# Altium footprint library Empreintes_LIB_atelier1A.PcbLib: 79 footprints (part 3 of 5)
Each footprint in its own frame and in the unit in brackets; x right, y up, seen from the top. Pads: shape width x height; smd on the part's side, far side on the other; paste and mask are expansions set on the pad; w line width, h text height; cw(c..) or ccw(c..) is an arc to the next point about the centre after c.
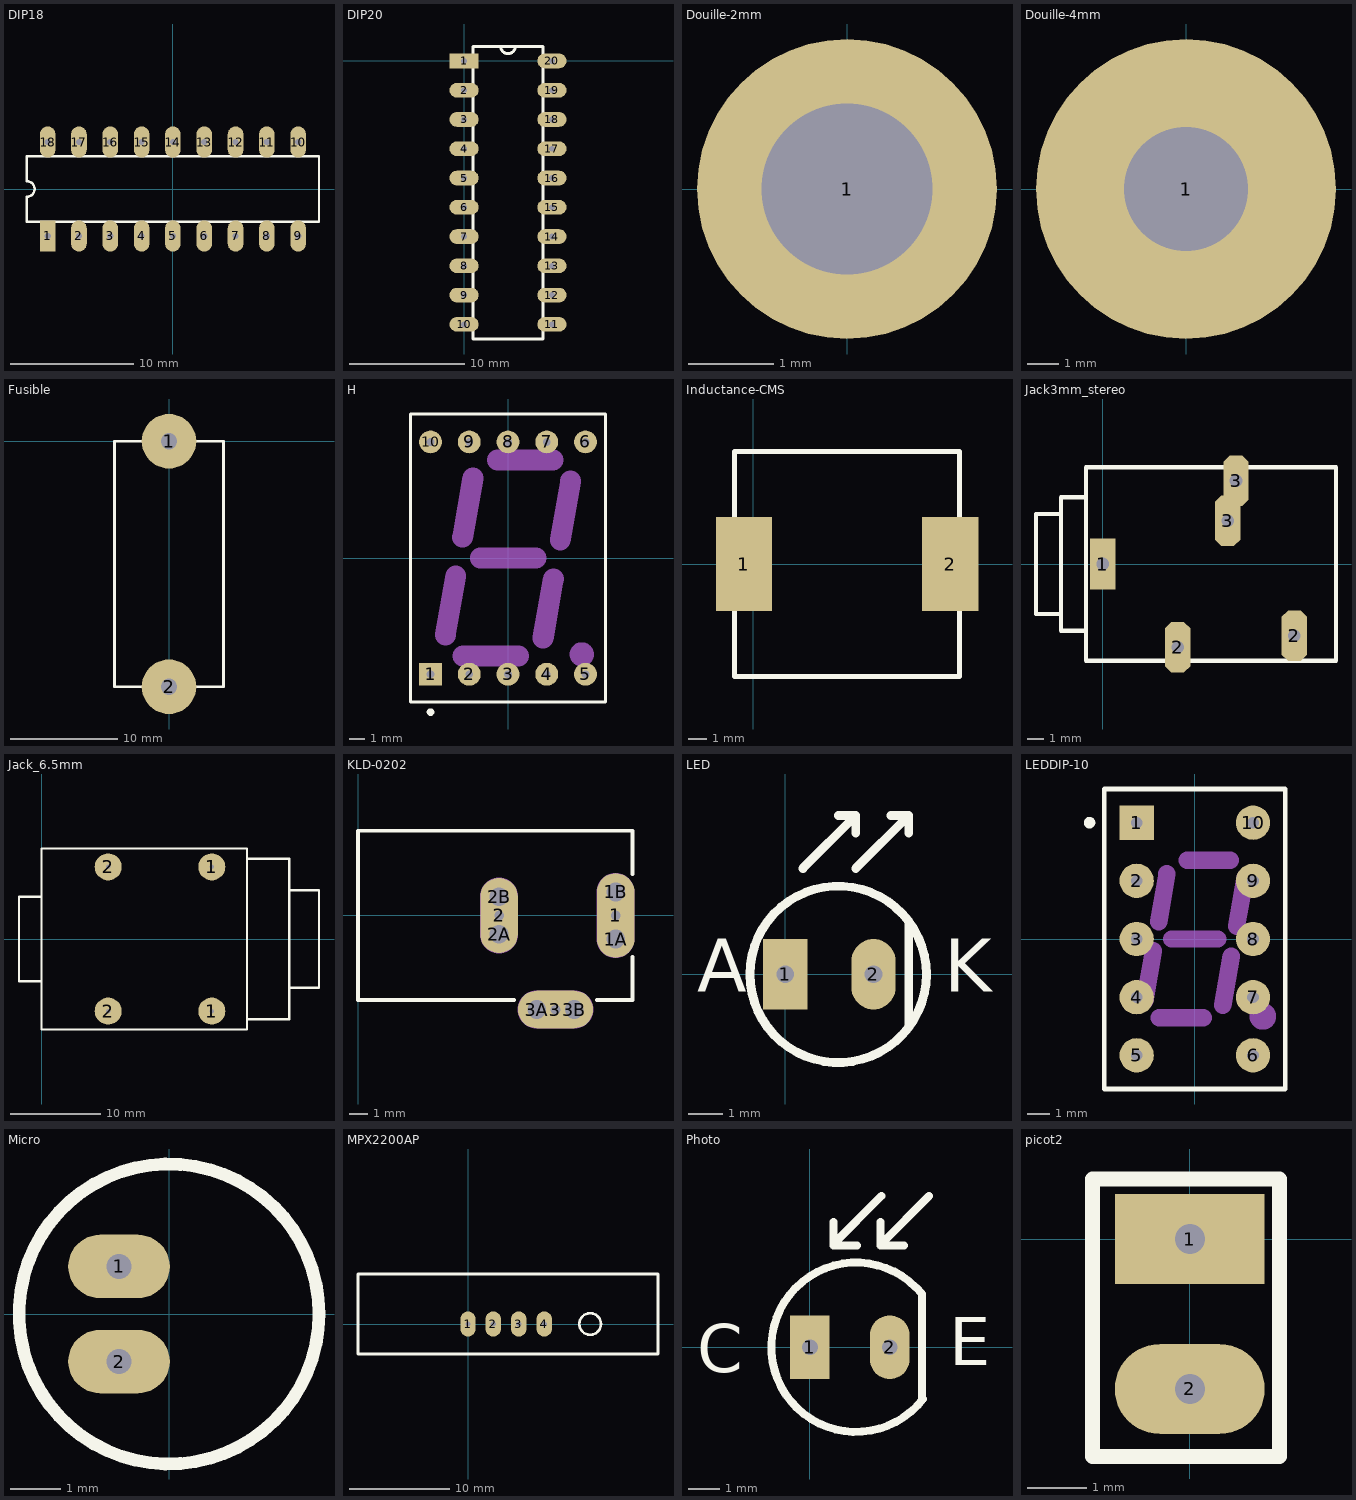
[diagram p2: the footprints below, top view; thin cyan lines are the x and y axes]

## DIP18 [mil] "CerDIP, Window; 18 Leads; Row Spacing 7.62 mm; Pitch 2.54 mm"
height 195.28
pads (18):
  rect 50x100 hole 20: 1(-400,-150)
  oval 50x100 hole 20: 2(-300,-150) 3(-200,-150) 4(-100,-150) 5(0,-150) 6(100,-150) 7(200,-150) 8(300,-150) 9(400,-150) 10(400,150) 11(300,150) 12(200,150) 13(100,150) 14(0,150) 15(-100,150) 16(-200,150) 17(-300,150) 18(-400,150)
TopOverlay:
  lines w7.87: -466.54,-104.33 466.54,-104.33 466.54,104.33 -466.54,104.33 -466.54,25 cw(c-466.54,0) -466.54,-25 -466.54,-104.33

## DIP20 [mil]
pads (20):
  rect 100x50 hole 20: 1(0,0)
  oval 100x50 hole 20: 2(0,-100) 3(0,-200) 4(0,-300) 5(0,-400) 6(0,-500) 7(0,-600) 8(0,-700) 9(0,-800) 10(0,-900) 11(300,-900) 12(300,-800) 13(300,-700) 14(300,-600) 15(300,-500) 16(300,-400) 17(300,-300) 18(300,-200) 19(300,-100) 20(300,0)
TopOverlay:
  lines w10: 85,-950 215,-950 ; 85,50 125,50 ccw(c150,50) 175,50 215,50 ; 30,-950 30,50 270,50 270,-950 30,-950

## Douille-2mm [mm]
pads (1):
  round 3.5 hole 2: 1(0,0)

## Douille-4mm [mil]
pads (1):
  round 380 hole 157.48: 1(0,0)

## Fusible [mil]
pads (2):
  round 200 hole 60: 1(0,0) 2(0,-900)
TopOverlay:
  lines w10: -200,-900 200,-900 200,-60 200,0 -200,0 -200,-900

## H [mm] "LED, 7-Segment Display, 14.2 mm, RHD; 10 Leads; Row Space 15.24 mm; Pitch 2.54 mm"
height 8.25
pads (10):
  rect 1.5x1.5 hole 0.508: 1(-5.08,-7.62)
  round 1.5 hole 0.508: 2(-2.54,-7.62) 3(0,-7.62) 4(2.54,-7.62) 5(5.08,-7.62) 6(5.08,7.62) 7(2.54,7.62) 8(0,7.62) 9(-2.54,7.62) 10(-5.08,7.62)
TopOverlay:
  circle w0.25: c-5.08,-10.1 r0.125
  lines w0.2: -6.4,-9.45 -6.4,9.45 6.4,9.45 6.4,-9.45 -6.4,-9.45
Mechanical1:
  circle w1: c4.842,-6.316 r0.296
  lines w1.37: -4.108,-5.054 -3.425,-1.17 ; -2.974,1.368 -2.293,5.255 ; -2.958,-6.429 0.692,-6.426 ; -1.821,0 1.828,0 ; -0.689,6.425 2.96,6.425 ; 2.295,-5.256 2.98,-1.371 ; 3.427,1.169 4.11,5.058

## Inductance-CMS [mil]
pads (2):
  rect 120x200 smd: 1(-20,0) 2(420,0)
TopOverlay:
  lines w10: -40,-240 -40,240 440,240 440,-240 -40,-240

## Jack3mm_stereo [mil]
pads (5):
  rect 60x120 hole 30: 1(0,0)
  oct 60x120 hole 30: 2(177.16,-196.85) 2(452.76,-169.29) 3(295.28,102.36) 3(314.96,196.85)
TopOverlay:
  lines w10: -98.43,-118.11 -157.48,-118.11 -157.48,118.11 -98.43,118.11 ; -39.37,-157.48 -98.43,-157.48 -98.43,157.48 -39.37,157.48 ; -39.37,-228.35 -39.37,0 -39.37,228.35 551.18,228.35 551.18,-228.35 -39.37,-228.35

## Jack_6.5mm [mm]
pads (4):
  round 3 hole 0.508: 1(18.9,-8) 1(18.9,8) 2(7.4,-8) 2(7.4,8)
TopOverlay:
  lines w0.254: 0,-4.7 -2.5,-4.7 -2.5,4.7 0,4.7 ; 22.8,-8.9 27.5,-8.9 27.5,8.9 22.8,8.9 ; 27.5,-5.4 30.8,-5.4 30.8,5.4 27.5,5.4 ; 0,-10.05 22.8,-10.05 22.8,10.05 0,10.05 0,-10.05

## KLD-0202 [mm]
pads (9):
  oval 2x4.5 hole 0.508: 1(13.7,0)
  round 1.5 hole 1: 1A(13.7,-1.25) 1B(13.7,1.25) 2A(7.5,-1) 2B(7.5,1) 3A(9.5,-5) 3B(11.5,-5)
  oval 2x4 hole 0.508: 2(7.5,0)
  oval 4x2 hole 0.508: 3(10.5,-5)
TopOverlay:
  lines w0.2: 8.3,-4.5 0,-4.5 0,4.5 14.6,4.5 14.6,2.2 ; 12.7,-4.5 14.6,-4.5 14.6,-2.2
Mechanical1:
  lines w1: 7.5,-1 7.5,1 ; 9.5,-5 11.5,-5 ; 13.7,-1.25 13.7,1.25
  text "Mech 2 - Clearance, move to internal plane if present" at 0.286,5.066 h0.3
  text "Mech 1 - Slot cut-out" at 0.286,5.566 h0.3
  text "Assign keep-out area to slot" at 0.286,6.566 h0.3
  text "Alert PCB fab to slot details" at 0.286,6.066 h0.3
Mechanical2:
  lines w2.016: 7.5,-1 7.5,1 ; 9.5,-5 11.5,-5 ; 13.7,-1.25 13.7,1.25

## LED [mil]
pads (2):
  rect 50x80 hole 20: 1(0,0)
  oval 50x80 hole 20: 2(100,0)
TopOverlay:
  circle w10: c60,0 r100
  lines w10: 20,120 80,180 ; 60,180 80,180 ; 80,120 140,180 ; 80,160 80,180 ; 120,180 140,180 ; 140,-60 140,60 ; 140,160 140,180
  text "K" at 180,-20 h60
  text "A" at -100,-20 h60

## LEDDIP-10 [mm] "LED, 7-Segment Display, 7.62 mm, RHD; 10 Leads; Row Space 5.08 mm; Pitch 2.54 mm"
height 6.34
pads (10):
  rect 1.5x1.5 hole 0.508: 1(-2.54,5.08)
  round 1.5 hole 0.508: 2(-2.54,2.54) 3(-2.54,0) 4(-2.54,-2.54) 5(-2.54,-5.08) 6(2.54,-5.08) 7(2.54,-2.54) 8(2.54,0) 9(2.54,2.54) 10(2.54,5.08)
TopOverlay:
  circle w0.25: c-4.6,5.08 r0.125
  lines w0.2: -3.95,-6.55 -3.95,6.55 3.95,6.55 3.95,-6.55 -3.95,-6.55
Mechanical1:
  circle w0.86: c2.97,-3.38 r0.15
  lines w0.762: -2.19,-2.69 -1.81,-0.52 ; -1.58,0.76 -1.22,2.84 ; -1.56,-3.43 0.36,-3.43 ; -1.004,0 1.004,0 ; -0.34,3.43 1.55,3.43 ; 1.22,-2.89 1.59,-0.76 ; 1.82,0.56 2.2,2.69

## Micro [mil]
pads (2):
  oval 80x50 hole 20: 1(-39.37,37.4) 2(-39.37,-37.4)
TopOverlay:
  circle w10: c0,0 r118.11

## MPX2200AP [mil]
pads (4):
  oval 60x100 hole 20: 1(0,0) 2(99.41,0) 3(199.8,0) 4(300.2,0)
TopOverlay:
  circle w10: c481.04,0 r42.59
  lines w10: -433.07,-118.11 748.03,-118.11 748.03,196.85 -433.07,196.85 -433.07,-118.11

## Photo [mil]
pads (2):
  rect 50x80 hole 20: 1(0,0)
  oval 50x80 hole 20: 2(100.39,0)
TopOverlay:
  lines w10: 29.53,157.48 29.53,127.95 59.06,127.95 ; 29.84,129.84 89.84,189.84 ; 88.58,157.48 88.58,127.95 118.11,127.95 ; 89.84,129.84 149.84,189.84 ; 140.75,-63.55 140.75,66.93 ccw(c58.07,0) 142.24,-65.04
  text "E" at 175.2,-22.64 h60
  text "C" at -141.73,-31.5 h60

## picot2 [mil]
pads (2):
  rect 100x60 hole 20: 1(0,0)
  oval 100x60 hole 20: 2(0,-100)
TopOverlay:
  lines w10: -65,-145 -65,-55 -65,40 -55,40 60,40 60,-135 60,-145 -65,-145